# Altium schematic symbol library Цифровые микросхемы.SchLib: 21 symbols
Pins are listed as number, name and electrical type; pins without a type are passive.

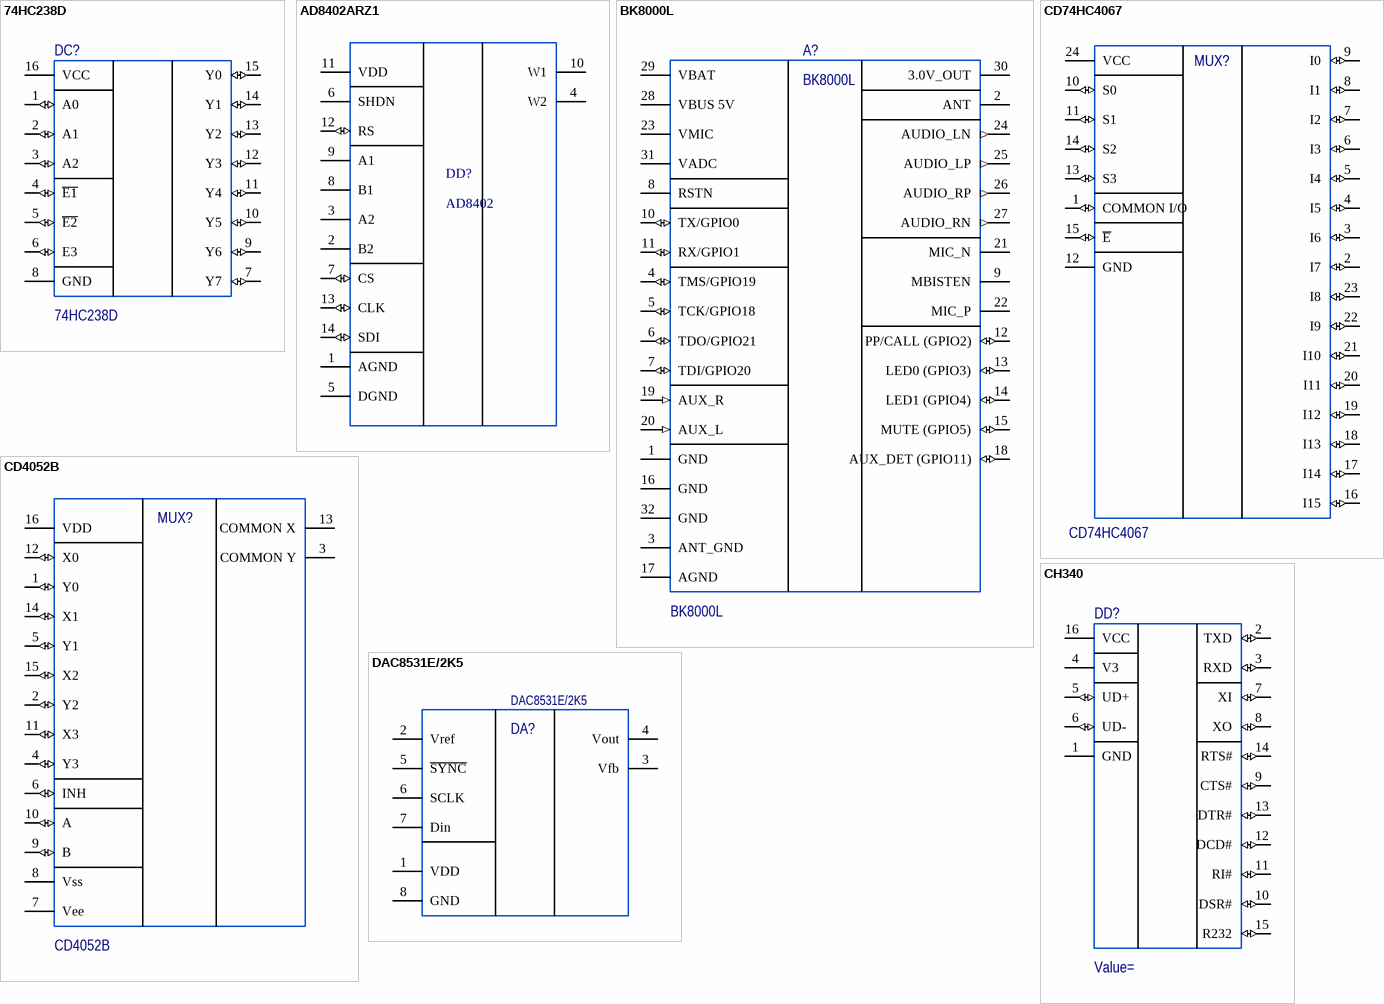
[diagram p0: symbols 74HC238D to DAC8531E/2K5]

## 74HC238D
designator DC?
Дешифратор/ демультиплексор, логическая ИС [SO-16]; Value: 74HC238D; Part: *; Alternative part: *; ComponentLink1Description: Link; ComponentLink1URL: *; ComponentLink2Description: Altrnative link; ComponentLink2URL: *
footprint SSOP-16
pins: 1 A0 (io) "I/O", 2 A1 (io) "I/O", 3 A2 (io) "I/O", 4 ~{E1} (io) "I/O", 5 ~{E2} (io) "I/O", 6 E3 (io) "I/O", 7 Y7 (io) "I/O", 8 GND (power) "POWER", 9 Y6 (io) "I/O", 10 Y5 (io) "I/O", 11 Y4 (io) "I/O", 12 Y3 (io) "I/O", 13 Y2 (io) "I/O", 14 Y1 (io) "I/O", 15 Y0 (io) "I/O", 16 VCC (power) "POWER"

## AD8402ARZ1
designator DD?, comment AD8402
AD8402ARZ1, Двухканальный цифровой потенциометр; Value: AD8402; Part: *; Alternative part: *; ComponentLink1Description: New link; ComponentLink1URL: *
footprint SOIC-14 (SOIC, 14-Leads, Body 8,65x3,90mm, Pitch 1,27mm, IPC Medium Density)
pins: 1 AGND "POWER", 2 B2 "POWER", 3 A2 "POWER", 4 W2 "POWER", 5 DGND "POWER", 6 SHDN "POWER", 7 CS (io) "INPUT", 8 B1 "POWER", 9 A1 "POWER", 10 W1 "POWER", 11 VDD "POWER", 12 RS (io) "INPUT", 13 CLK (io) "INPUT", 14 SDI (io) "INPUT"

## BK8000L
designator A?
Model EB8000 / Bluetooth; Value: BK8000L; Part: *; Alternative part: *; ComponentLink1Description: New link; ComponentLink1URL: https://9v.ru/product/stereo-audio-bluetooth-modul-bk8000l; ComponentLink2Description: New link; ComponentLink2URL: *
footprint BK0008L
pins: 1 GND (power), 2 ANT (hiz), 3 ANT_GND (power), 4 TMS/GPIO19 (io), 5 TCK/GPIO18 (io), 6 TDO/GPIO21 (io), 7 TDI/GPIO20 (io), 8 RSTN (power), 9 MBISTEN (power), 10 TX/GPIO0 (io), 11 RX/GPIO1 (io), 12 PP/CALL (GPIO2) (io), 13 LED0 (GPIO3) (io), 14 LED1 (GPIO4) (io), 15 MUTE (GPIO5) (io), 16 GND (power), 17 AGND (power), 18 AUX_DET (GPIO11) (io), 19 AUX_R (in), 20 AUX_L (in), 21 MIC_N (power), 22 MIC_P (power), 23 VMIC (power), 24 AUDIO_LN (out), 25 AUDIO_LP (out), 26 AUDIO_RP (out), 27 AUDIO_RN (out), 28 VBUS 5V (power), 29 VBAT (power), 30 3.0V_OUT (power), 31 VADC (power), 32 GND (power)

## CD74HC4067
designator MUX?
High-Speed CMOS Logic / 16-Channel Analog Multiplexer/Demultiplexer; Value: CD74HC4067; Part: *; Alternative part: *; ComponentLink1Description: Link; ComponentLink1URL: *; ComponentLink2Description: Alternative link; ComponentLink2URL: *
footprint SOIC-24
pins: 1 COMMON I/O (io) "I/O", 2 I7 (io) "I/O", 3 I6 (io) "I/O", 4 I5 (io) "I/O", 5 I4 (io) "I/O", 6 I3 (io) "I/O", 7 I2 (io) "I/O", 8 I1 (io) "I/O", 9 I0 (io) "I/O", 10 S0 (io) "I/O", 11 S1 (io) "I/O", 12 GND (power) "POWER", 13 S3 (io) "I/O", 14 S2 (io) "I/O", 15 ~{E} (io) "I/O", 16 I15 (io) "I/O", 17 I14 (io) "I/O", 18 I13 (io) "I/O", 19 I12 (io) "I/O", 20 I11 (io) "I/O", 21 I10 (io) "I/O", 22 I9 (io) "I/O", 23 I8 (io) "I/O", 24 VCC (power) "POWER"

## CD4052B
designator MUX?
SOIC-16 Signal Switches, Multiplexers, Decoders ROHS; Value: CD4052B; Part: *; Alternative part: *; ComponentLink1Description: Link; ComponentLink1URL: *; ComponentLink2Description: Alternative link; ComponentLink2URL: *
footprint SOIC-16
pins: 1 Y0 (io) "IO", 2 Y2 (io) "IO", 3 COMMON Y "POWER", 4 Y3 (io) "IO", 5 Y1 (io) "IO", 6 INH (io) "IO", 7 Vee "POWER", 8 Vss "POWER", 9 B (io) "IO", 10 A (io) "IO", 11 X3 (io) "IO", 12 X0 (io) "IO", 13 COMMON X "POWER", 14 X1 (io) "IO", 15 X2 (io) "IO", 16 VDD "POWER"

## CH340
designator DD?, comment Value=
Transceiver 2Mbps USB 2.0 SOP-16_150mil USB ICs ROHS; Value: CH340; Part: *; Alternative part: *; ComponentLink1Description: Link; ComponentLink1URL: *; ComponentLink2Description: Alternative link; ComponentLink2URL: *
footprint SOP-16
pins: 1 GND (power) "POWER", 2 TXD (io) "I/O", 3 RXD (io) "I/O", 4 V3 (power) "POWER", 5 UD+ (io) "I/O", 6 UD- (io) "I/O", 7 XI (io) "I/O", 8 XO (io) "I/O", 9 CTS# (io) "I/O", 10 DSR# (io) "I/O", 11 RI# (io) "I/O", 12 DCD# (io) "I/O", 13 DTR# (io) "I/O", 14 RTS# (io) "I/O", 15 R232 (io) "I/O", 16 VCC (power) "POWER"

## DAC8531E/2K5
designator DA?
Voltage-Buffered 16 1 SPI,DSP MSOP-8 Digital To Analog Converters (DACs) ROHS; Part: C57186; Value: DAC8531E/2K5; Alternative part: C57186
footprint MSOP-8
pins: 1 VDD "POWER", 2 Vref "POWER", 3 Vfb "POWER", 4 Vout "POWER", 5 ~{SYNC} "POWER", 6 SCLK "POWER", 7 Din "POWER", 8 GND "POWER"

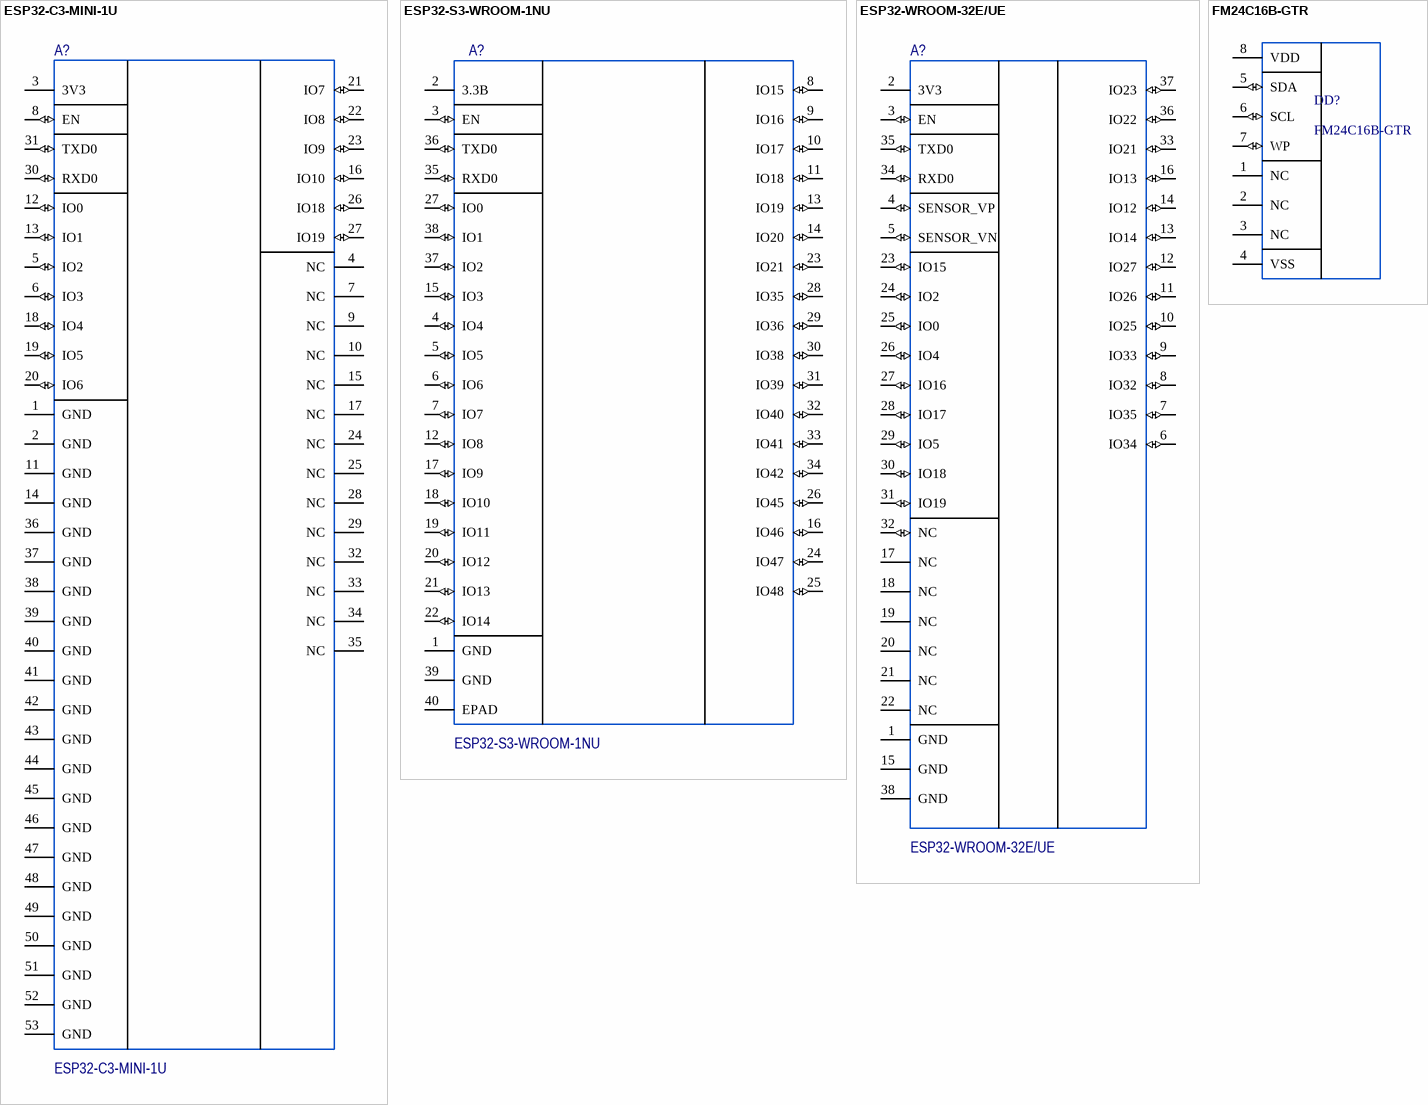
[diagram p1: symbols ESP32-C3-MINI-1U to FM24C16B-GTR]

## ESP32-C3-MINI-1U
designator A?
Value: ESP32-C3-MINI-1U; Part: *; Alternative part: *; ComponentLink1Description: Link; ComponentLink1URL: *; ComponentLink2Description: Alternative link; ComponentLink2URL: *
pins: 1 GND (power) "POWER", 2 GND (power) "POWER", 3 3V3 (power) "POWER", 4 NC "passive", 5 IO2 (io) "I/O", 6 IO3 (io) "I/O", 7 NC "passive", 8 EN (io) "I/O", 9 NC "passive", 10 NC "passive", 11 GND (power) "POWER", 12 IO0 (io) "I/O", 13 IO1 (io) "I/O", 14 GND (power) "POWER", 15 NC "passive", 16 IO10 (io) "I/O", 17 NC "passive", 18 IO4 (io) "I/O", 19 IO5 (io) "I/O", 20 IO6 (io) "I/O", 21 IO7 (io) "I/O", 22 IO8 (io) "I/O", 23 IO9 (io) "I/O", 24 NC "passive", 25 NC "passive", 26 IO18 (io) "I/O", 27 IO19 (io) "I/O", 28 NC "passive", 29 NC "passive", 30 RXD0 (io) "I/O", 31 TXD0 (io) "I/O", 32 NC "passive", 33 NC "passive", 34 NC "passive", 35 NC "passive", 36 GND (power) "POWER", 37 GND (power) "POWER", 38 GND (power) "POWER", 39 GND (power) "POWER", 40 GND (power) "POWER", 41 GND (power) "POWER", 42 GND (power) "POWER", 43 GND (power) "POWER", 44 GND (power) "POWER", 45 GND (power) "POWER", 46 GND (power) "POWER", 47 GND (power) "POWER", 48 GND (power) "POWER", 49 GND (power) "POWER", 50 GND (power) "POWER", 51 GND (power) "POWER", 52 GND (power) "POWER", 53 GND (power) "POWER"

## ESP32-S3-WROOM-1NU
designator A?
Value: ESP32-S3-WROOM-1NU; Part: *; Alternative part: *; ComponentLink1Description: Link; ComponentLink1URL: *; ComponentLink2Description: Alternative link; ComponentLink2URL: *
footprint ESP32WROOM32UE16MB
pins: 1 GND (power) "POWER", 2 3.3В (power) "POWER", 3 EN (io) "I/O", 4 IO4 (io) "I/O", 5 IO5 (io) "I/O", 6 IO6 (io) "I/O", 7 IO7 (io) "I/O", 8 IO15 (io) "I/O", 9 IO16 (io) "I/O", 10 IO17 (io) "I/O", 11 IO18 (io) "I/O", 12 IO8 (io) "I/O", 13 IO19 (io) "I/O", 14 IO20 (io) "I/O", 15 IO3 (io) "I/O", 16 IO46 (io) "I/O", 17 IO9 (io) "I/O", 18 IO10 (io) "I/O", 19 IO11 (io) "I/O", 20 IO12 (io) "I/O", 21 IO13 (io) "I/O", 22 IO14 (io) "I/O", 23 IO21 (io) "I/O", 24 IO47 (io) "I/O", 25 IO48 (io) "I/O", 26 IO45 (io) "I/O", 27 IO0 (io) "I/O", 28 IO35 (io) "I/O", 29 IO36 (io) "I/O", 30 IO38 (io) "I/O", 31 IO39 (io) "I/O", 32 IO40 (io) "I/O", 33 IO41 (io) "I/O", 34 IO42 (io) "I/O", 35 RXD0 (io) "I/O", 36 TXD0 (io) "I/O", 37 IO2 (io) "I/O", 38 IO1 (io) "I/O", 39 GND (power) "POWER", 40 EPAD (power) "POWER"

## ESP32-WROOM-32E/UE
designator A?
2.4 GHz Wi­Fi + Bluetooth® + Bluetooth LE module / Built around ESP32 series of SoCs, Xtensa® dual­core 32­bit LX6 microprocessor; Value: ESP32-WROOM-32E/UE; Part: *; Alternative part: *; ComponentLink1Description: Link; ComponentLink1URL: *; ComponentLink2Description: Alternative link; ComponentLink2URL: *
footprint ESP32WROOM32UE16MB
pins: 1 GND (power) "POWER", 2 3V3 (power) "POWER", 3 EN (io) "I/O", 4 SENSOR_VP (io) "I/O", 5 SENSOR_VN (io) "I/O", 6 IO34 (io) "I/O", 7 IO35 (io) "I/O", 8 IO32 (io) "I/O", 9 IO33 (io) "I/O", 10 IO25 (io) "I/O", 11 IO26 (io) "I/O", 12 IO27 (io) "I/O", 13 IO14 (io) "I/O", 14 IO12 (io) "I/O", 15 GND (power) "POWER", 16 IO13 (io) "I/O", 17 NC "passive", 18 NC "passive", 19 NC "passive", 20 NC "passive", 21 NC "passive", 22 NC "passive", 23 IO15 (io) "I/O", 24 IO2 (io) "I/O", 25 IO0 (io) "I/O", 26 IO4 (io) "I/O", 27 IO16 (io) "I/O", 28 IO17 (io) "I/O", 29 IO5 (io) "I/O", 30 IO18 (io) "I/O", 31 IO19 (io) "I/O", 32 NC (io) "I/O", 33 IO21 (io) "I/O", 34 RXD0 (io) "I/O", 35 TXD0 (io) "I/O", 36 IO22 (io) "I/O", 37 IO23 (io) "I/O", 38 GND (power) "POWER"

## FM24C16B-GTR
designator DD?
I2C 16Kb (2K x 8) 4.5V ~ 5.5V Non-Volatile SOIC-8_150mil FRAM ROHS; Value: FM24C16B-GTR; Part: *; Alternative part: *
footprint SOIC-8 (SOIC, 8-Leads, Body 4,90x3,90mm, Pitch 1,27mm, IPC Medium Density)
pins: 1 NC "POWER", 2 NC "POWER", 3 NC "POWER", 4 VSS "POWER", 5 SDA (io) "IO", 6 SCL (io) "Input", 7 WP (io) "Input", 8 VDD "POWER"

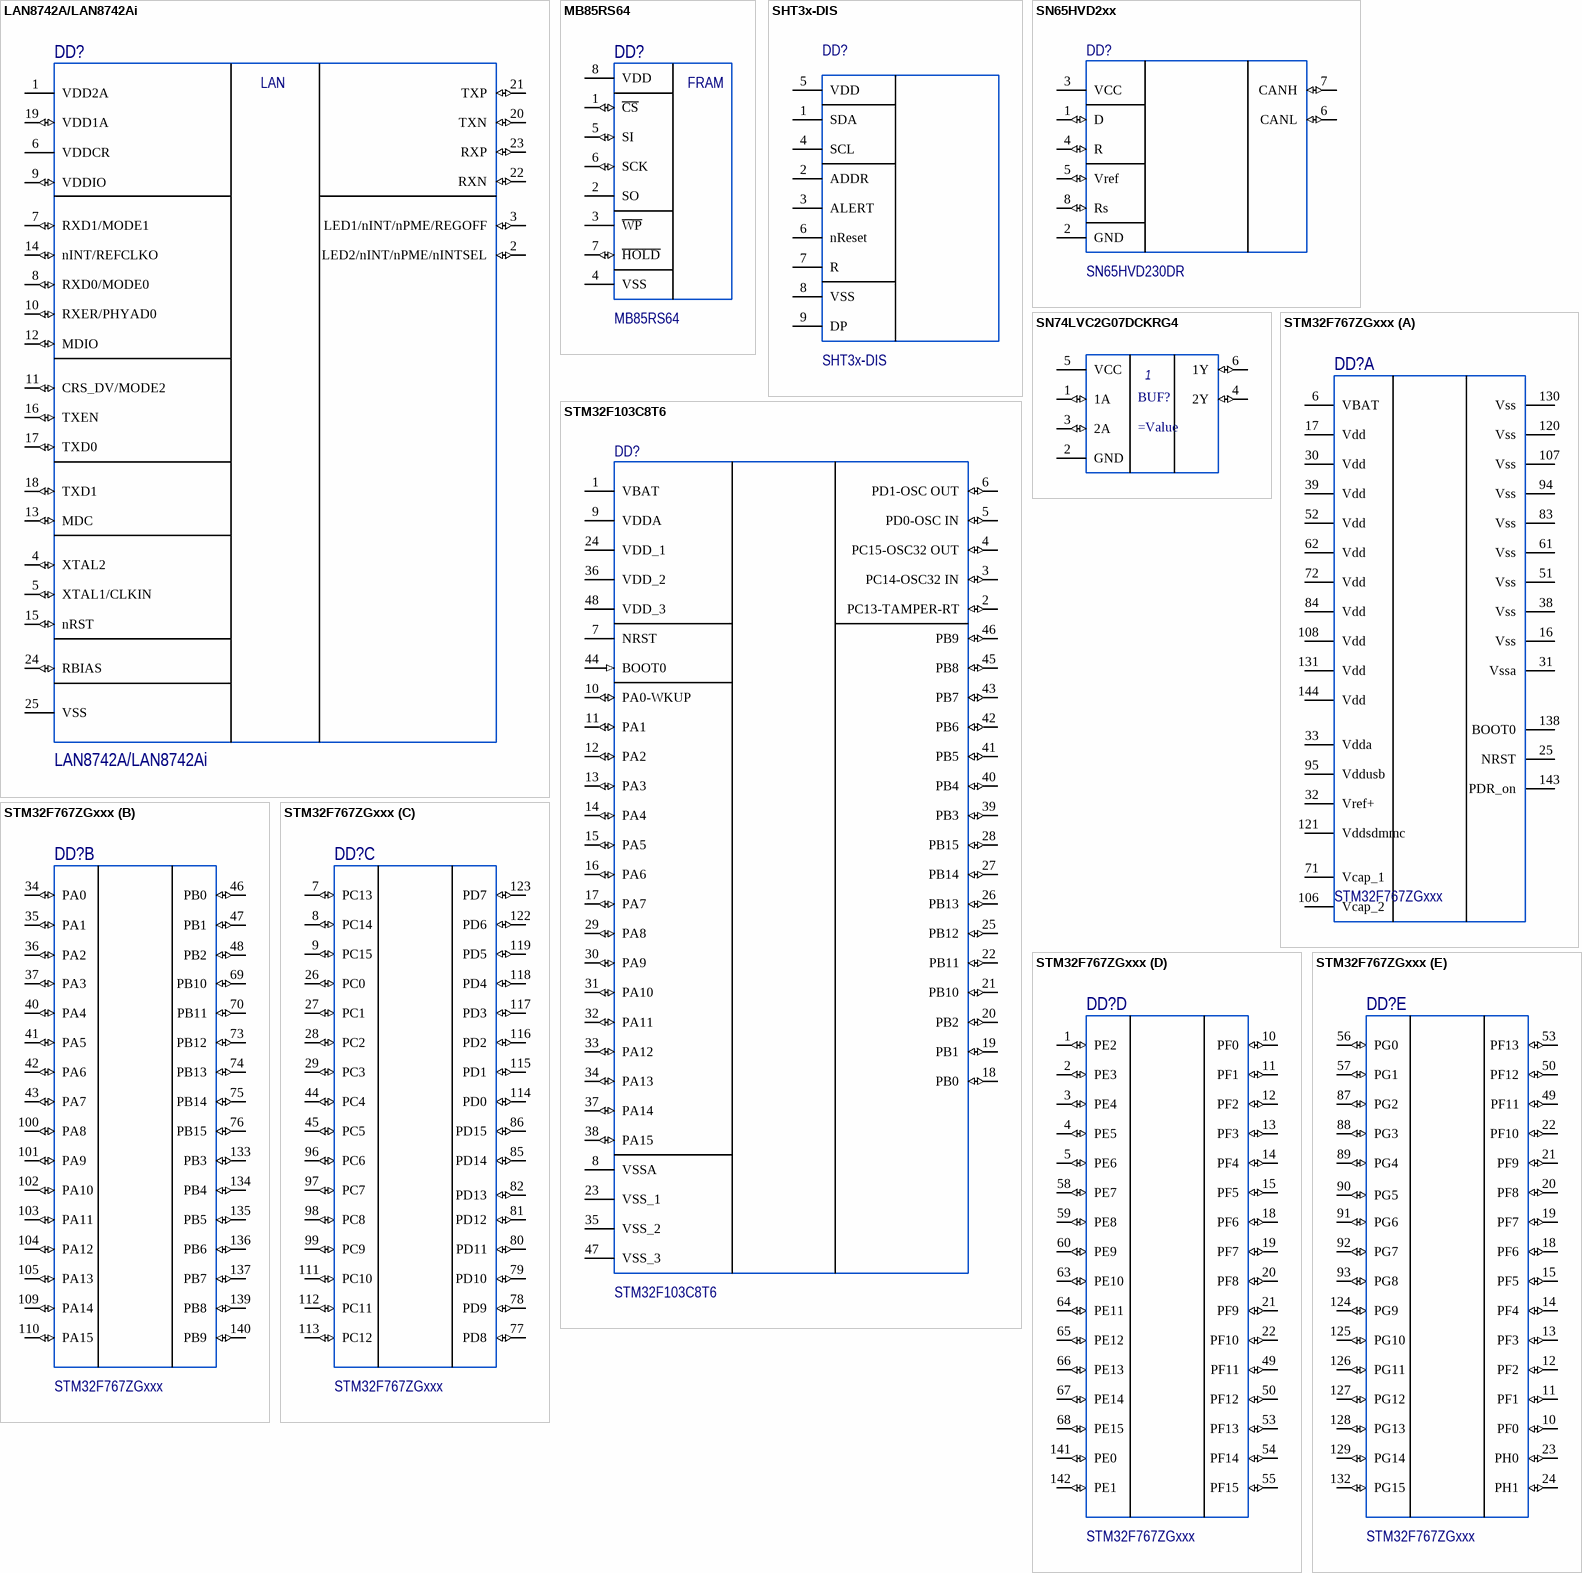
[diagram p2: symbols LAN8742A/LAN8742Ai to STM32F767ZGxxx]

## LAN8742A/LAN8742Ai
designator DD?
Part: C621425; Value: LAN8742A/LAN8742Ai; Alternative part: *
footprint VQFN
pins: 1 VDD2A, 2 LED2/nINT/nPME/nINTSEL (io), 3 LED1/nINT/nPME/REGOFF (io), 4 XTAL2 (io), 5 XTAL1/CLKIN (io), 6 VDDCR, 7 RXD1/MODE1 (io), 8 RXD0/MODE0 (io), 9 VDDIO (io), 10 RXER/PHYAD0 (io), 11 CRS_DV/MODE2 (io), 12 MDIO (io), 13 MDC (io), 14 nINT/REFCLKO (io), 15 nRST (io), 16 TXEN (io), 17 TXD0 (io), 18 TXD1 (io), 19 VDD1A (io), 20 TXN (io), 21 TXP (io), 22 RXN (io), 23 RXP (io), 24 RBIAS (io), 25 VSS
text: LAN

## MB85RS64
designator DD?
I2C 16Kb (2K x 8) 4.5V ~ 5.5V Non-Volatile SOIC-8_150mil FRAM ROHS; Part: C8741; Value: MB85RS64; Alternative part: *
footprint SOIC-8 (SOIC, 8-Leads, Body 4,90x3,90mm, Pitch 1,27mm, IPC Medium Density)
pins: 1 ~{CS} (io) "INPUT", 2 SO "POWER", 3 ~{WP} "POWER", 4 VSS "POWER", 5 SI (io) "IO", 6 SCK (io) "Input", 7 ~{HOLD} (io) "Input", 8 VDD "POWER"
text: FRAM

## SHT3x-DIS
designator DD?
SHT3x-DIS is the next generation of Sensirion’s / temperature and humidity sensors.; Value: SHT3x-DIS; Part: *; ComponentLink1Description: New link; ComponentLink1URL: *; Alternative part: *
footprint DFN
pins: 1 SDA "POWER", 2 ADDR "POWER", 3 ALERT "POWER", 4 SCL "POWER", 5 VDD "POWER", 6 nReset "POWER", 7 R "POWER", 8 VSS "POWER", 9 DP "POWER"

## SN65HVD2xx
designator DD?, comment SN65HVD230DR
Transceiver 1/1 CAN 1Mbps SOIC-8_150mil CAN ICs ROHS; Value: SN65HVD230DR; Part: *; Alternative part: *; ComponentLink1Description: Link; ComponentLink1URL: *; ComponentLink2Description: Alternative link; ComponentLink2URL: *
footprint SOIC-8 (SOIC, 8-Leads, Body 4,90x3,90mm, Pitch 1,27mm, IPC Medium Density)
pins: 1 D (io) "POWER", 2 GND "POWER", 3 VCC "POWER", 4 R (io) "INPUT", 5 Vref (io) "INPUT", 6 CANL (io) "OUTPUT", 7 CANH (io) "OUTPUT", 8 Rs (io) "INPUT"

## SN74LVC2G07DCKRG4
designator BUF?
74LVC Buffer, Non-Inverting 2 1 SC-70-6 Logic-Buffers, Drivers, Receivers, Transceivers ROHS
footprint SOT-6
pins: 1 1A (io) "IO", 2 GND "POWER", 3 2A (io) "IO", 4 2Y (io) "IO", 5 VCC "POWER", 6 1Y (io) "IO"

## STM32F103C8T6
designator DD?
STM32F103C8T6, Микроконтроллер 32-Бит, Cortex-M3, 72МГц, 64КБ Flash, USB, CAN; ComponentLink1Description: Datasheet; ComponentLink1URL: https://www.st.com/resource/en/datasheet/stm32f103c8.pdf
footprint LQFP48_L (Thin QFP, 48-Leads, Body 7x7mm, Pitch 0.5mm, IPC High Density)
footprint QFN48 (QFN, 48-Leads, Body 6,00x6,00mm, Pitch 0,40mm, Thermal Pad 4,50x4,50mm, IPC Medium Density)
pins: 1 VBAT "POWER", 2 PC13-TAMPER-RT (io) "I/O", 3 PC14-OSC32 IN (io) "I/O", 4 PC15-OSC32 OUT (io) "I/O", 5 PD0-OSC IN (io) "I/O", 6 PD1-OSC OUT (io) "I/O", 7 NRST "POWER", 8 VSSA "POWER", 9 VDDA "POWER", 10 PA0-WKUP (io) "I/O", 11 PA1 (io) "I/O", 12 PA2 (io) "I/O", 13 PA3 (io) "I/O", 14 PA4 (io) "I/O", 15 PA5 (io) "I/O", 16 PA6 (io) "I/O", 17 PA7 (io) "I/O", 18 PB0 (io) "I/O", 19 PB1 (io) "I/O", 20 PB2 (io) "I/O", 21 PB10 (io) "I/O", 22 PB11 (io) "I/O", 23 VSS_1 "POWER", 24 VDD_1 "POWER", 25 PB12 (io) "I/O", 26 PB13 (io) "I/O", 27 PB14 (io) "I/O", 28 PB15 (io) "I/O", 29 PA8 (io) "I/O", 30 PA9 (io) "I/O", 31 PA10 (io) "I/O", 32 PA11 (io) "I/O", 33 PA12 (io) "I/O", 34 PA13 (io) "I/O", 35 VSS_2 "POWER", 36 VDD_2 "POWER", 37 PA14 (io) "I/O", 38 PA15 (io) "I/O", 39 PB3 (io) "I/O", 40 PB4 (io) "I/O", 41 PB5 (io) "I/O", 42 PB6 (io) "I/O", 43 PB7 (io) "I/O", 44 BOOT0 (in) "INPUT", 45 PB8 (io) "I/O", 46 PB9 (io) "I/O", 47 VSS_3 "POWER", 48 VDD_3 "POWER"

## STM32F767ZGxxx
designator DD?
footprint LQFP144
part A pins: 6 VBAT, 16 Vss, 17 Vdd, 25 NRST, 30 Vdd, 31 Vssa, 32 Vref+, 33 Vdda, 38 Vss, 39 Vdd, 51 Vss, 52 Vdd, 61 Vss, 62 Vdd, 71 Vcap_1, 72 Vdd, 83 Vss, 84 Vdd, 94 Vss, 95 Vddusb, 106 Vcap_2, 107 Vss, 108 Vdd, 120 Vss, 121 Vddsdmmc, 130 Vss, 131 Vdd, 138 BOOT0, 143 PDR_on, 144 Vdd
part B pins: 34 PA0 (io), 35 PA1 (io), 36 PA2 (io), 37 PA3 (io), 40 PA4 (io), 41 PA5 (io), 42 PA6 (io), 43 PA7 (io), 46 PB0 (io), 47 PB1 (io), 48 PB2 (io), 69 PB10 (io), 70 PB11 (io), 73 PB12 (io), 74 PB13 (io), 75 PB14 (io), 76 PB15 (io), 100 PA8 (io), 101 PA9 (io), 102 PA10 (io), 103 PA11 (io), 104 PA12 (io), 105 PA13 (io), 109 PA14 (io), 110 PA15 (io), 133 PB3 (io), 134 PB4 (io), 135 PB5 (io), 136 PB6 (io), 137 PB7 (io), 139 PB8 (io), 140 PB9 (io)
part C pins: 7 PC13 (io), 8 PC14 (io), 9 PC15 (io), 26 PC0 (io), 27 PC1 (io), 28 PC2 (io), 29 PC3 (io), 44 PC4 (io), 45 PC5 (io), 77 PD8 (io), 78 PD9 (io), 79 PD10 (io), 80 PD11 (io), 81 PD12 (io), 82 PD13 (io), 85 PD14 (io), 86 PD15 (io), 96 PC6 (io), 97 PC7 (io), 98 PC8 (io), 99 PC9 (io), 111 PC10 (io), 112 PC11 (io), 113 PC12 (io), 114 PD0 (io), 115 PD1 (io), 116 PD2 (io), 117 PD3 (io), 118 PD4 (io), 119 PD5 (io), 122 PD6 (io), 123 PD7 (io)
part D pins: 1 PE2 (io), 2 PE3 (io), 3 PE4 (io), 4 PE5 (io), 5 PE6 (io), 10 PF0 (io), 11 PF1 (io), 12 PF2 (io), 13 PF3 (io), 14 PF4 (io), 15 PF5 (io), 18 PF6 (io), 19 PF7 (io), 20 PF8 (io), 21 PF9 (io), 22 PF10 (io), 49 PF11 (io), 50 PF12 (io), 53 PF13 (io), 54 PF14 (io), 55 PF15 (io), 58 PE7 (io), 59 PE8 (io), 60 PE9 (io), 63 PE10 (io), 64 PE11 (io), 65 PE12 (io), 66 PE13 (io), 67 PE14 (io), 68 PE15 (io), 141 PE0 (io), 142 PE1 (io)
part E pins: 10 PF0 (io), 11 PF1 (io), 12 PF2 (io), 13 PF3 (io), 14 PF4 (io), 15 PF5 (io), 18 PF6 (io), 19 PF7 (io), 20 PF8 (io), 21 PF9 (io), 22 PF10 (io), 23 PH0 (io), 24 PH1 (io), 49 PF11 (io), 50 PF12 (io), 53 PF13 (io), 56 PG0 (io), 57 PG1 (io), 87 PG2 (io), 88 PG3 (io), 89 PG4 (io), 90 PG5 (io), 91 PG6 (io), 92 PG7 (io), 93 PG8 (io), 124 PG9 (io), 125 PG10 (io), 126 PG11 (io), 127 PG12 (io), 128 PG13 (io), 129 PG14 (io), 132 PG15 (io)

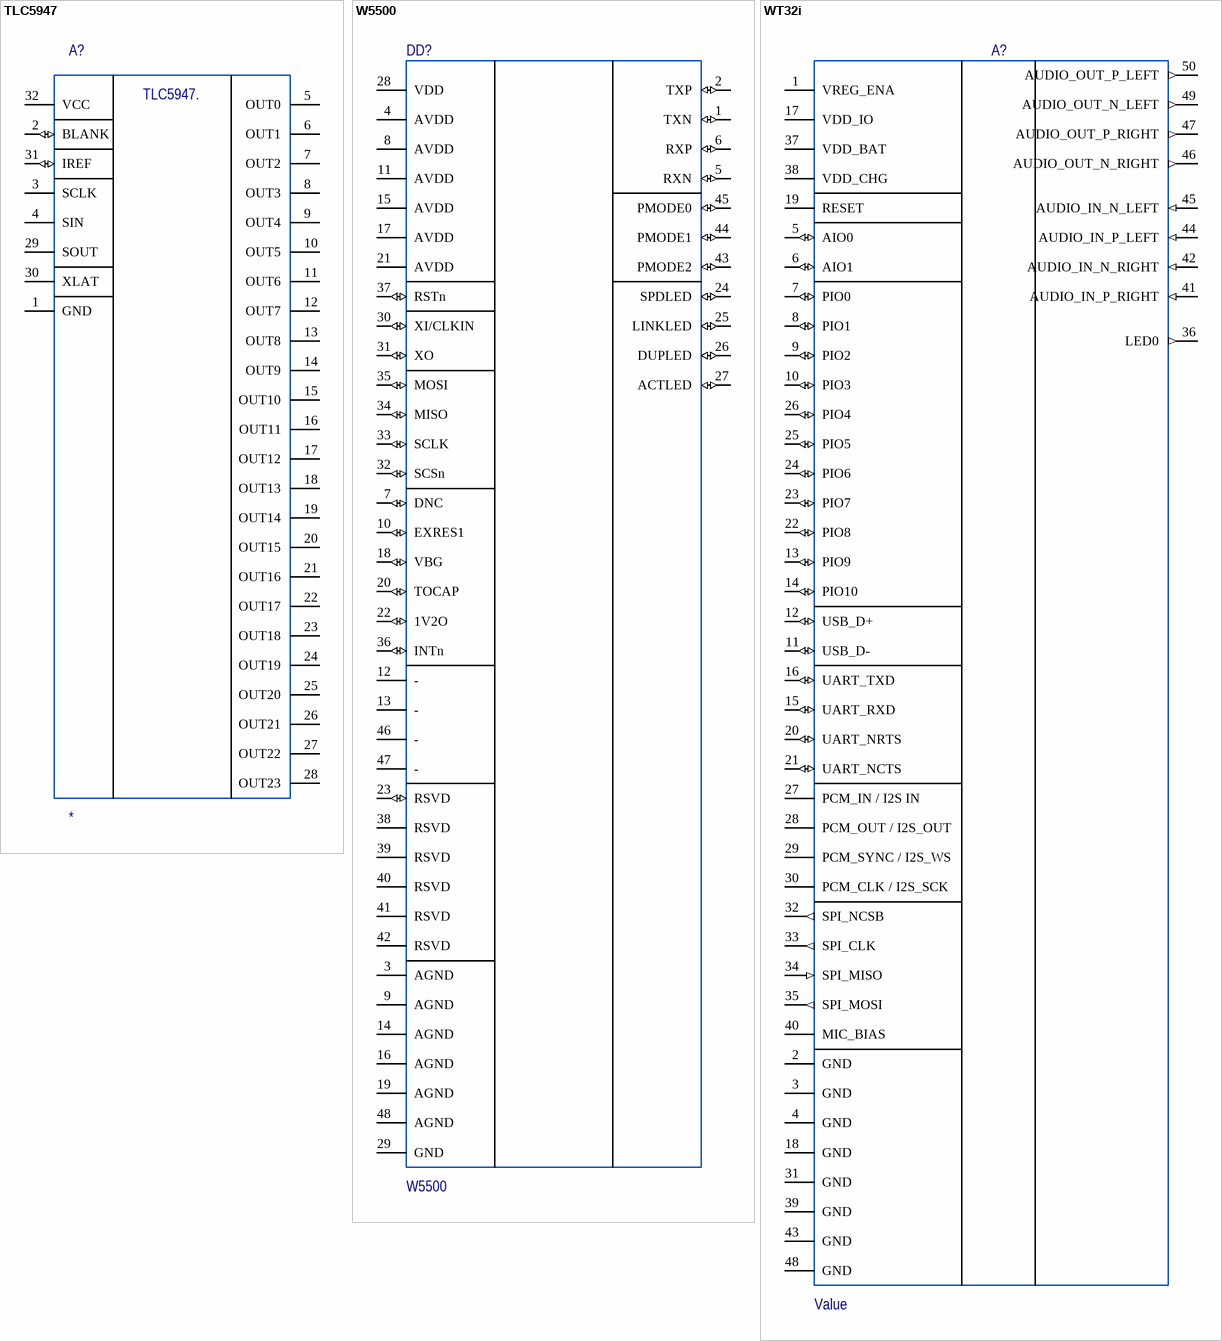
[diagram p3: symbols TLC5947 to WT32i]

## TLC5947
designator A?
Value: *; Part: *; Alternative part: *; ComponentLink1Description: Link; ComponentLink1URL: *; ComponentLink2Description: Alternative link; ComponentLink2URL: *
footprint TSSOP - 1.2 mm
pins: 1 GND (power) "POWER", 2 BLANK (io) "I/O", 3 SCLK (power) "POWER", 4 SIN (power) "POWER", 5 OUT0 (power) "POWER", 6 OUT1 (power) "POWER", 7 OUT2 (power) "POWER", 8 OUT3 (power) "POWER", 9 OUT4 (power) "POWER", 10 OUT5 (power) "POWER", 11 OUT6 (power) "POWER", 12 OUT7 (power) "POWER", 13 OUT8 (power) "POWER", 14 OUT9 (power) "POWER", 15 OUT10 (power) "POWER", 16 OUT11 (power) "POWER", 17 OUT12 (power) "POWER", 18 OUT13 (power) "POWER", 19 OUT14 (power) "POWER", 20 OUT15 (power) "POWER", 21 OUT16 (power) "POWER", 22 OUT17 (power) "POWER", 23 OUT18 (power) "POWER", 24 OUT19 (power) "POWER", 25 OUT20 (power) "POWER", 26 OUT21 (power) "POWER", 27 OUT22 (power) "POWER", 28 OUT23 (power) "POWER", 29 SOUT (power) "POWER", 30 XLAT (power) "POWER", 31 IREF (io) "I/O", 32 VCC (power) "POWER"
text: TLC5947.

## W5500
designator DD?
Ethernet Controllers 2.97V ~ 3.63V 10/100 Base-T/TX PHY SPI LQFP-48_7x7x05P Ethernet ICs ROHS; Value: W5500; Part: *; Alternative part: *; ComponentLink1Description: Link; ComponentLink1URL: *; ComponentLink2Description: Alternative link; ComponentLink2URL: *
footprint LQFP-48n
pins: 1 TXN (io) "I/O", 2 TXP (io) "I/O", 3 AGND (power) "POWER", 4 AVDD (power) "POWER", 5 RXN (io) "I/O", 6 RXP (io) "I/O", 7 DNC (io) "I/O", 8 AVDD (power) "POWER", 9 AGND (power) "POWER", 10 EXRES1 (io) "I/O", 11 AVDD (power) "POWER", 12 - "passive", 13 - "passive", 14 AGND (power) "POWER", 15 AVDD (power) "POWER", 16 AGND (power) "POWER", 17 AVDD (power) "POWER", 18 VBG (io) "I/O", 19 AGND (power) "POWER", 20 TOCAP (io) "I/O", 21 AVDD (power) "POWER", 22 1V2O (io) "I/O", 23 RSVD (io) "I/O", 24 SPDLED (io) "I/O", 25 LINKLED (io) "I/O", 26 DUPLED (io) "I/O", 27 ACTLED (io) "I/O", 28 VDD (power) "POWER", 29 GND (power) "POWER", 30 XI/CLKIN (io) "I/O", 31 XO (io) "I/O", 32 SCSn (io) "I/O", 33 SCLK (io) "I/O", 34 MISO (io) "I/O", 35 MOSI (io) "I/O", 36 INTn (io) "I/O", 37 RSTn (io) "I/O", 38 RSVD "passive", 39 RSVD "passive", 40 RSVD "passive", 41 RSVD "passive", 42 RSVD "passive", 43 PMODE2 (io) "I/O", 44 PMODE1 (io) "I/O", 45 PMODE0 (io) "I/O", 46 - "passive", 47 - "passive", 48 AGND (power) "POWER"

## WT32i
designator A?, comment Value
BLUETOOTH AUDIO MODULE; Value: WT32i; Part: *; Alternative part: *; ComponentLink1Description: Link; ComponentLink1URL: *; ComponentLink2Description: Alternative link; ComponentLink2URL: *
footprint WT32-adapter
footprint WT32iAAI6aptX
pins: 1 VREG_ENA (power) "POWER", 2 GND (power) "POWER", 3 GND (power) "POWER", 4 GND (power) "POWER", 5 AIO0 (io) "POWER", 6 AIO1 (io) "POWER", 7 PIO0 (io) "POWER", 8 PIO1 (io) "POWER", 9 PIO2 (io) "POWER", 10 PIO3 (io) "POWER", 11 USB_D- (io) "I/O", 12 USB_D+ (io) "I/O", 13 PIO9 (io) "POWER", 14 PIO10 (io) "POWER", 15 UART_RXD (io) "I/O", 16 UART_TXD (io) "I/O", 17 VDD_IO (power) "POWER", 18 GND (power) "POWER", 19 RESET (power) "POWER", 20 UART_NRTS (io) "I/O", 21 UART_NCTS (io) "I/O", 22 PIO8 (io) "POWER", 23 PIO7 (io) "POWER", 24 PIO6 (io) "POWER", 25 PIO5 (io) "POWER", 26 PIO4 (io) "POWER", 27 PCM_IN / I2S IN "POWER", 28 PCM_OUT / I2S_OUT "POWER", 29 PCM_SYNC / I2S_WS "POWER", 30 PCM_CLK / I2S_SCK "POWER", 31 GND "POWER", 32 SPI_NCSB (out) "POWER", 33 SPI_CLK (out) "POWER", 34 SPI_MISO (in) "POWER", 35 SPI_MOSI (out) "POWER", 36 LED0 (out) "POWER", 37 VDD_BAT (power) "POWER", 38 VDD_CHG (power) "POWER", 39 GND (power) "POWER", 40 MIC_BIAS "POWER", 41 AUDIO_IN_P_RIGHT (in) "POWER", 42 AUDIO_IN_N_RIGHT (in) "POWER", 43 GND (power) "POWER", 44 AUDIO_IN_P_LEFT (in) "POWER", 45 AUDIO_IN_N_LEFT (in) "POWER", 46 AUDIO_OUT_N_RIGHT (out) "POWER", 47 AUDIO_OUT_P_RIGHT (out) "POWER", 48 GND (power) "POWER", 49 AUDIO_OUT_N_LEFT (out) "POWER", 50 AUDIO_OUT_P_LEFT (out) "POWER"